# EAGLE library part LTC3530 (library xmaker)
Linear Technology LTC3530 - Wide Input Voltage Synchronous Buck-Boost DC/DC Converter
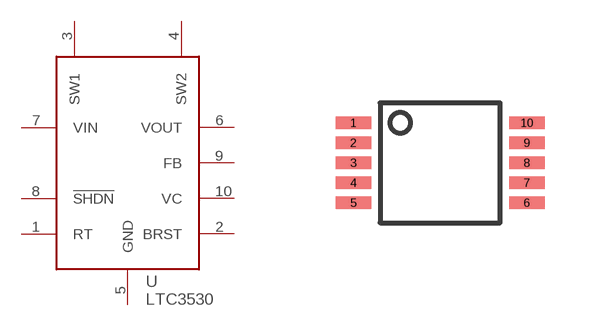
[diagram p17: symbol with the pads of MSOP10; footprint MSOP10]

Designator prefix U

## LTC3530EMS  [MSOP10]
1  RT
2  BRST
3  SW1
4  SW2
5  GND
6  VOUT
7  VIN
8  !SHDN
9  FB
10  VC

## Footprint MSOP10 (pad centres in mm)
smd 0.889 x 0.305: 1 -2.17,1; 2 -2.17,0.5; 3 -2.17,0; 4 -2.17,-0.5; 5 -2.17,-1; 6 2.17,-1; 7 2.17,-0.5; 8 2.17,0; 9 2.17,0.5; 10 2.17,1